# Altium footprint library Mechanical_3D.PcbLib: 98 footprints (part 7 of 7)
Each footprint in its own frame and in the unit in brackets; x right, y up, seen from the top. Pads: shape width x height; smd on the part's side, far side on the other; paste and mask are expansions set on the pad; w line width, h text height; cw(c..) or ccw(c..) is an arc to the next point about the centre after c.
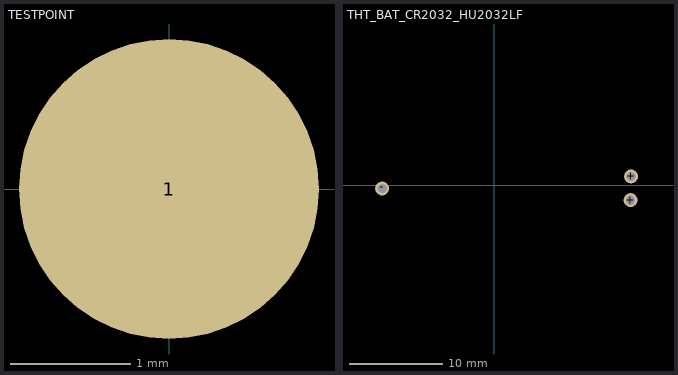
[diagram p6: the footprints below, top view; thin cyan lines are the x and y axes]

## TESTPOINT [mm]
pads (1):
  round 2.499 smd paste+0 mask+0: 1(0,0)

## THT_BAT_CR2032_HU2032LF [mm]
pads (3):
  round 1.5 hole 1 paste+0: +(14.7,-1.6) +(14.75,0.95) -(-12.05,-0.35)
Bottom Overlay:
  circle w0.254: c1.2,-0.4 r11
  lines w0.2: -14.65,-0.3 -13.6,-0.3 ; -9.3,-4 -13,-4 -13.1,-3.9 -13.1,2.9 -13,3 -9.3,3 ; 11.7,-4 16,-4 16,3 11.7,3 ; 16.4,-0.35 17.65,-0.35 ; 17,-1 17,0.25
3D body "CR2032_holder-HU2032-LF.stp": height 3.07, standoff -5.63, extent -12.929,-8.38 15.571,7.72